# EAGLE library part TPS25730S (library Public)
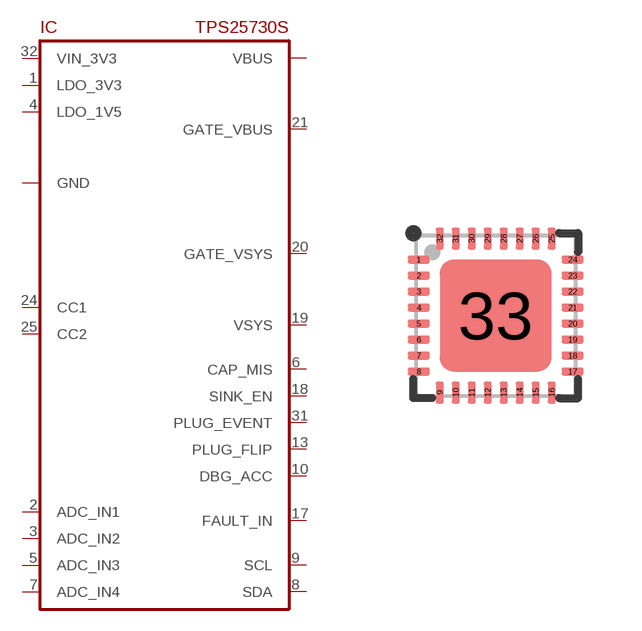
[diagram p225: symbol with the pads of VQFN32-0.4; footprint VQFN32-0.4]

Designator prefix IC

## TPS25730S  [VQFN32-0.4]
1  LDO_3V3
2  ADC_IN1
3  ADC_IN2
4  LDO_1V5
5  ADC_IN3
6  CAP_MIS
7  ADC_IN4
8  SDA
9  SCL
10  DBG_ACC
11  GND
12  GND
13  PLUG_FLIP
14  GND
15  GND
16  GND
17  FAULT_IN
18  SINK_EN
19  VSYS
20  GATE_VSYS
21  GATE_VBUS
22  GND
23  GND
24  CC1
25  CC2
26  VBUS
27  VBUS
28  GND
29  GND
30  GND
31  PLUG_EVENT
32  VIN_3V3
33  GND

## Footprint VQFN32-0.4 (pad centres in mm)
smd 0.55 x 0.2: 1 -1.925,1.4; 2 -1.925,1; 3 -1.925,0.6; 4 -1.925,0.2; 5 -1.925,-0.2; 6 -1.925,-0.6; 7 -1.925,-1; 8 -1.925,-1.4; 17 1.925,-1.4; 18 1.925,-1; 19 1.925,-0.6; 20 1.925,-0.2; 21 1.925,0.2; 22 1.925,0.6; 23 1.925,1; 24 1.925,1.4
smd 0.2 x 0.55: 9 -1.4,-1.925; 10 -1,-1.925; 11 -0.6,-1.925; 12 -0.2,-1.925; 13 0.2,-1.925; 14 0.6,-1.925; 15 1,-1.925; 16 1.4,-1.925; 25 1.4,1.925; 26 1,1.925; 27 0.6,1.925; 28 0.2,1.925; 29 -0.2,1.925; 30 -0.6,1.925; 31 -1,1.925; 32 -1.4,1.925
smd 2.8 x 2.8: 33 0,0